# Altium schematic symbol library Timer_RTC.SchLib: 42 symbols
Pins are listed as number, name and electrical type; pins without a type are passive.

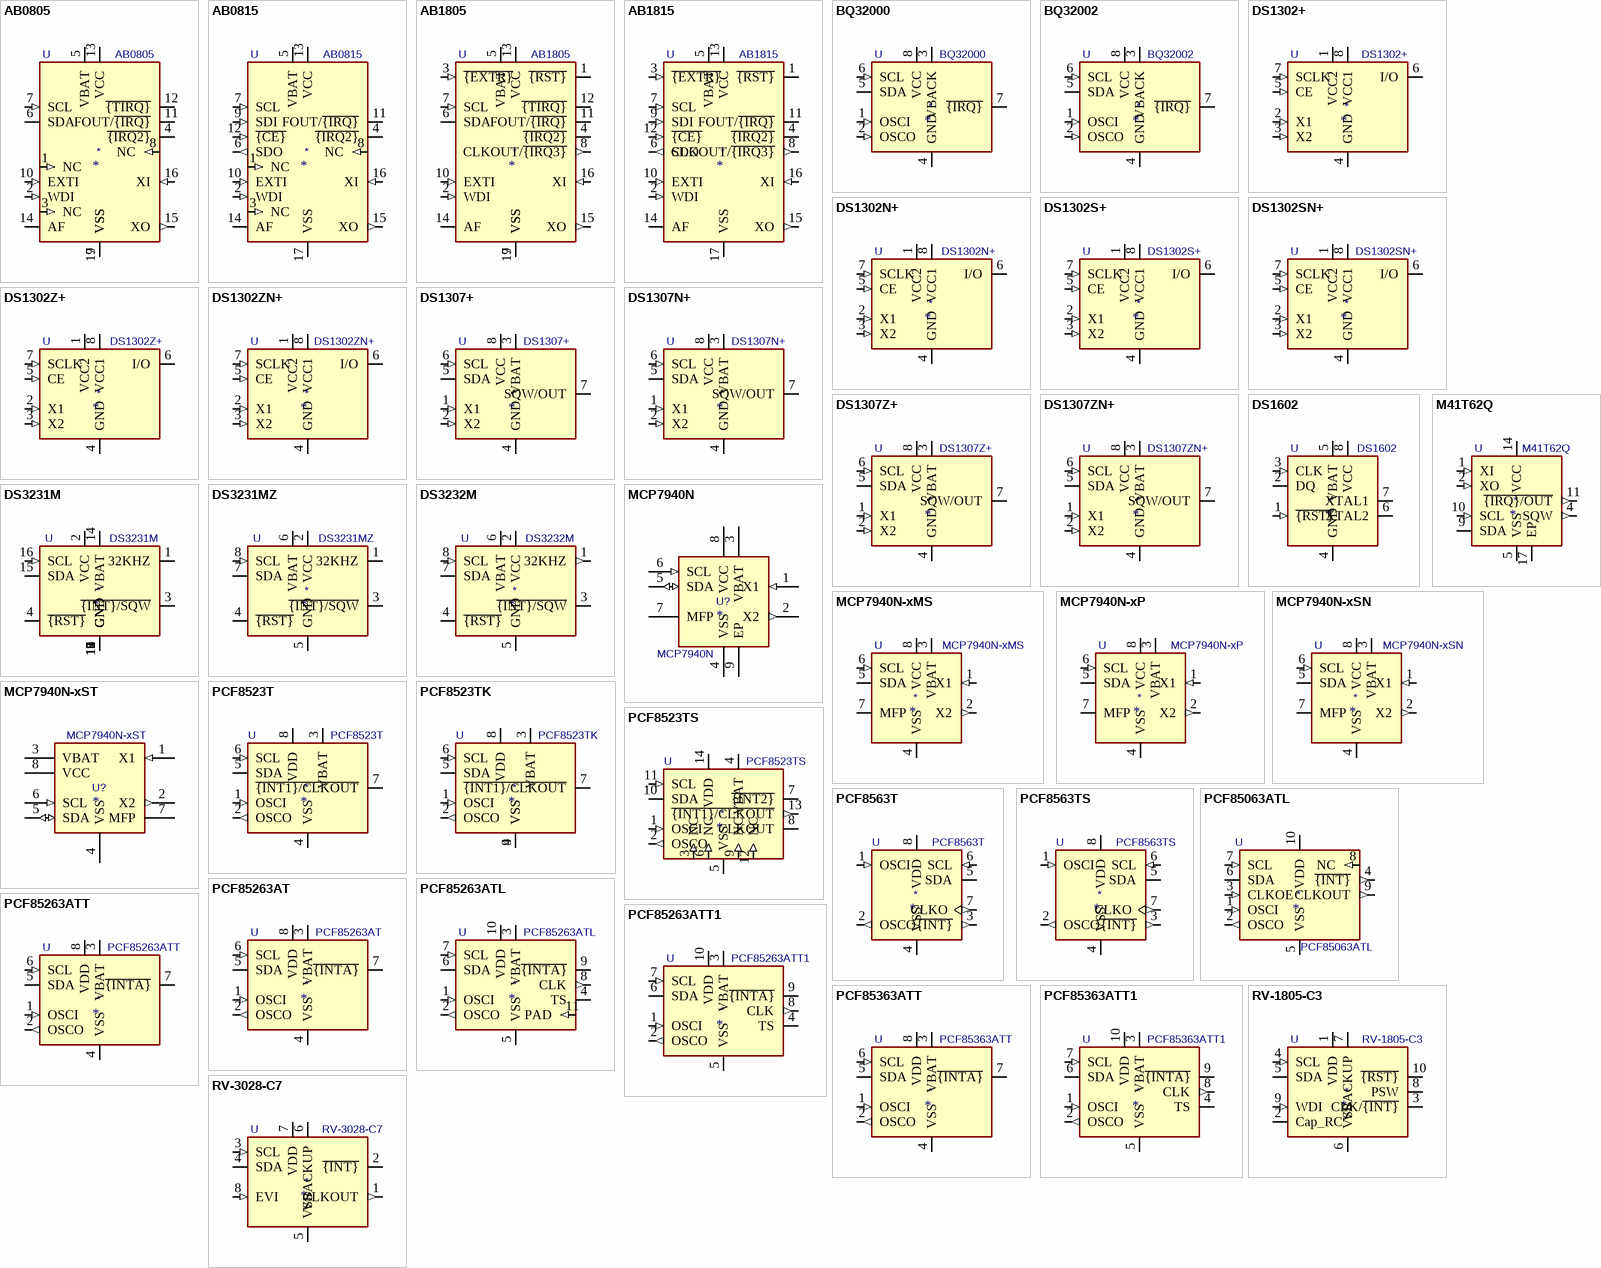
[diagram p0: symbols AB0805 to RV-3028-C7]

## AB0805
designator *  value AB0805  Reference: U
Real-Time Clock, I2C Interface, 3 GPO, QFN-16; ki_keywords: rtc; ki_fp_filters: VQFN*1EP*3x3mm*P0.5mm*; Footprint: Package_DFN_QFN:VQFN-16-1EP_3x3mm_P0.5mm_EP1.8x1.8mm; Datasheet: https://abracon.com/Precisiontiming/AB08X5-RTC.PDF; Description_: Real-Time Clock, I2C Interface, 3 GPO, QFN-16
pins: 1 NC (in), 2 WDI (in), 3 NC (in), 4 ~{{IRQ2}} (oc), 5 VBAT (power), 6 SDA (io), 7 SCL (in), 8 NC (in), 9 VSS (power), 10 EXTI (in), 11 FOUT/~{{IRQ}} (oc), 12 ~{{TIRQ}} (oc), 13 VCC (power), 14 AF, 15 XO (out), 16 XI (in), 17 VSS

## AB0815
designator *  value AB0815  Reference: U
Real-Time Clock, SPI Interface, 2 GPO, QFN-16; ki_keywords: rtc; ki_fp_filters: VQFN*1EP*3x3mm*P0.5mm*; Footprint: Package_DFN_QFN:VQFN-16-1EP_3x3mm_P0.5mm_EP1.8x1.8mm; Datasheet: https://abracon.com/Precisiontiming/AB08X5-RTC.PDF; Description_: Real-Time Clock, SPI Interface, 2 GPO, QFN-16
pins: 1 NC (in), 2 WDI (in), 3 NC (in), 4 ~{{IRQ2}} (oc), 5 VBAT (power), 6 SDO (out), 7 SCL (in), 8 NC (in), 9 SDI (in), 10 EXTI (in), 11 FOUT/~{{IRQ}} (oc), 12 ~{{CE}} (in), 13 VCC (power), 14 AF, 15 XO (out), 16 XI (in), 17 VSS (power)

## AB1805
designator *  value AB1805  Reference: U
Real-Time Clock, I2C Interface, 4 GPO, QFN-16; ki_keywords: rtc; ki_fp_filters: VQFN*1EP*3x3mm*P0.5mm*; Footprint: Package_DFN_QFN:VQFN-16-1EP_3x3mm_P0.5mm_EP1.8x1.8mm; Datasheet: https://abracon.com/Precisiontiming/AB18X5-RTC.pdf; Description_: Real-Time Clock, I2C Interface, 4 GPO, QFN-16
pins: 1 ~{{RST}} (oc), 2 WDI (in), 3 ~{{EXTR}} (in), 4 ~{{IRQ2}} (oc), 5 VBAT (power), 6 SDA (io), 7 SCL (in), 8 CLKOUT/~{{IRQ3}} (out), 9 VSS (power), 10 EXTI (in), 11 FOUT/~{{IRQ}} (oc), 12 ~{{TIRQ}} (oc), 13 VCC (power), 14 AF, 15 XO (out), 16 XI (in), 17 VSS

## AB1815
designator *  value AB1815  Reference: U
Real-Time Clock, SPI Interface, 3 GPO, QFN-16; ki_keywords: rtc; ki_fp_filters: VQFN*1EP*3x3mm*P0.5mm*; Footprint: Package_DFN_QFN:VQFN-16-1EP_3x3mm_P0.5mm_EP1.8x1.8mm; Datasheet: https://abracon.com/Precisiontiming/AB18X5-RTC.pdf; Description_: Real-Time Clock, SPI Interface, 3 GPO, QFN-16
pins: 1 ~{{RST}} (oc), 2 WDI (in), 3 ~{{EXTR}} (in), 4 ~{{IRQ2}} (oc), 5 VBAT (power), 6 SDO (out), 7 SCL (in), 8 CLKOUT/~{{IRQ3}} (out), 9 SDI (in), 10 EXTI (in), 11 FOUT/~{{IRQ}} (oc), 12 ~{{CE}} (in), 13 VCC (power), 14 AF, 15 XO (out), 16 XI (in), 17 VSS (power)

## BQ32000
designator *  value BQ32000  Reference: U
Serial, I2C Real-time clock, Trickle charger, 3V to 3.6V VCC, -40°C to +85°C, SOIC-8; ki_keywords: RTC, I2C Timekeeping Chip; ki_fp_filters: SOIC*3.9x4.9mm?P1.27mm*; Footprint: Package_SO:SOIC-8_3.9x4.9mm_P1.27mm; Datasheet: http://www.ti.com/lit/ds/symlink/bq32000.pdf; Description_: Serial, I2C Real-time clock, Trickle charger, 3V to 3.6V VCC, -40°C to +85°C, SOIC-8
pins: 1 OSCI (in), 2 OSCO (in), 3 VBACK (power), 4 GND (power), 5 SDA (io), 6 SCL (in), 7 ~{{IRQ}} (oc), 8 VCC (power)

## BQ32002
designator *  value BQ32002  Reference: U
Serial, I2C Real-time clock, 3V to 3.6V VCC, -40°C to +85°C, SOIC-8; ki_keywords: RTC, I2C Timekeeping Chip; ki_fp_filters: SOIC*3.9x4.9mm?P1.27mm*; Footprint: Package_SO:SOIC-8_3.9x4.9mm_P1.27mm; Datasheet: http://www.ti.com/lit/ds/symlink/bq32002.pdf; Description_: Serial, I2C Real-time clock, 3V to 3.6V VCC, -40°C to +85°C, SOIC-8
pins: 1 OSCI (in), 2 OSCO (in), 3 VBACK (power), 4 GND (power), 5 SDA (io), 6 SCL (in), 7 ~{{IRQ}} (oc), 8 VCC (power)

## DS1302+
designator *  value DS1302+  Reference: U
Trickle-Charge Timekeeping Chip, 2.0V to 5.5V VCC, 0°C to +70°C, DIP-8; ki_keywords: RTC Trickle-Charge Timekeeping Chip; ki_fp_filters: DIP*W7.62mm*; Footprint: Package_DIP:DIP-8_W7.62mm; Datasheet: https://datasheets.maximintegrated.com/en/ds/DS1302.pdf; Description_: Trickle-Charge Timekeeping Chip, 2.0V to 5.5V VCC, 0°C to +70°C, DIP-8
pins: 1 VCC2 (power), 2 X1 (in), 3 X2 (in), 4 GND (power), 5 CE (in), 6 I/O (io), 7 SCLK (in), 8 VCC1 (power)

## DS1302N+
designator *  value DS1302N+  Reference: U
Trickle-Charge Timekeeping Chip, 2.0V to 5.5V VCC, -40°C to +85°C, DIP-8; ki_keywords: RTC Trickle-Charge Timekeeping Chip; ki_fp_filters: DIP*W7.62mm*; Footprint: Package_DIP:DIP-8_W7.62mm; Datasheet: https://datasheets.maximintegrated.com/en/ds/DS1302.pdf; Description_: Trickle-Charge Timekeeping Chip, 2.0V to 5.5V VCC, -40°C to +85°C, DIP-8
pins: 1 VCC2 (power), 2 X1 (in), 3 X2 (in), 4 GND (power), 5 CE (in), 6 I/O (io), 7 SCLK (in), 8 VCC1 (power)

## DS1302S+
designator *  value DS1302S+  Reference: U
Trickle-Charge Timekeeping Chip, 2.0V to 5.5V VCC, 0°C to +70°C, SOIC-8 (208 mil); ki_keywords: RTC Trickle-Charge Timekeeping Chip; ki_fp_filters: *SOIC*5.3x5.3mm*P1.27mm*; Footprint: Package_SO:SOIC-8_5.3x5.3mm_P1.27mm; Datasheet: https://datasheets.maximintegrated.com/en/ds/DS1302.pdf; Description_: Trickle-Charge Timekeeping Chip, 2.0V to 5.5V VCC, 0°C to +70°C, SOIC-8 (208 mil)
pins: 1 VCC2 (power), 2 X1 (in), 3 X2 (in), 4 GND (power), 5 CE (in), 6 I/O (io), 7 SCLK (in), 8 VCC1 (power)

## DS1302SN+
designator *  value DS1302SN+  Reference: U
Trickle-Charge Timekeeping Chip, 2.0V to 5.5V VCC, -40°C to +85°C, SOIC-8 (208 mil); ki_keywords: RTC Trickle-Charge Timekeeping Chip; ki_fp_filters: *SOIC*5.3x5.3mm*P1.27mm*; Footprint: Package_SO:SOIC-8_5.3x5.3mm_P1.27mm; Datasheet: https://datasheets.maximintegrated.com/en/ds/DS1302.pdf; Description_: Trickle-Charge Timekeeping Chip, 2.0V to 5.5V VCC, -40°C to +85°C, SOIC-8 (208 mil)
pins: 1 VCC2 (power), 2 X1 (in), 3 X2 (in), 4 GND (power), 5 CE (in), 6 I/O (io), 7 SCLK (in), 8 VCC1 (power)

## DS1302Z+
designator *  value DS1302Z+  Reference: U
Trickle-Charge Timekeeping Chip, 2.0V to 5.5V VCC, 0°C to +70°C, SOIC-8 (150 mil); ki_keywords: RTC Trickle-Charge Timekeeping Chip; ki_fp_filters: SOIC*3.9x4.9mm?P1.27mm*; Footprint: Package_SO:SOIC-8_3.9x4.9mm_P1.27mm; Datasheet: https://datasheets.maximintegrated.com/en/ds/DS1302.pdf; Description_: Trickle-Charge Timekeeping Chip, 2.0V to 5.5V VCC, 0°C to +70°C, SOIC-8 (150 mil)
pins: 1 VCC2 (power), 2 X1 (in), 3 X2 (in), 4 GND (power), 5 CE (in), 6 I/O (io), 7 SCLK (in), 8 VCC1 (power)

## DS1302ZN+
designator *  value DS1302ZN+  Reference: U
Trickle-Charge Timekeeping Chip, 2.0V to 5.5V VCC, -40°C to +85°C, SOIC-8 (150 mil); ki_keywords: RTC Trickle-Charge Timekeeping Chip; ki_fp_filters: SOIC*3.9x4.9mm?P1.27mm*; Footprint: Package_SO:SOIC-8_3.9x4.9mm_P1.27mm; Datasheet: https://datasheets.maximintegrated.com/en/ds/DS1302.pdf; Description_: Trickle-Charge Timekeeping Chip, 2.0V to 5.5V VCC, -40°C to +85°C, SOIC-8 (150 mil)
pins: 1 VCC2 (power), 2 X1 (in), 3 X2 (in), 4 GND (power), 5 CE (in), 6 I/O (io), 7 SCLK (in), 8 VCC1 (power)

## DS1307+
designator *  value DS1307+  Reference: U
64 x 8, Serial, I2C Real-time clock, 4.5V to 5.5V VCC, 0°C to +70°C, DIP-8; ki_keywords: RTC, Trickle-Charge Timekeeping Chip; ki_fp_filters: DIP*W7.62mm*; Footprint: Package_DIP:DIP-8_W7.62mm; Datasheet: https://datasheets.maximintegrated.com/en/ds/DS1307.pdf; Description_: 64 x 8, Serial, I2C Real-time clock, 4.5V to 5.5V VCC, 0°C to +70°C, DIP-8
pins: 1 X1 (in), 2 X2 (in), 3 VBAT (power), 4 GND (power), 5 SDA (io), 6 SCL (in), 7 SQW/OUT (oc), 8 VCC (power)

## DS1307N+
designator *  value DS1307N+  Reference: U
64 x 8, Serial, I2C Real-time clock, 4.5V to 5.5V VCC, -40°C to +85°C, DIP-8; ki_keywords: RTC, Trickle-Charge Timekeeping Chip; ki_fp_filters: DIP*W7.62mm*; Footprint: Package_DIP:DIP-8_W7.62mm; Datasheet: https://datasheets.maximintegrated.com/en/ds/DS1307.pdf; Description_: 64 x 8, Serial, I2C Real-time clock, 4.5V to 5.5V VCC, -40°C to +85°C, DIP-8
pins: 1 X1 (in), 2 X2 (in), 3 VBAT (power), 4 GND (power), 5 SDA (io), 6 SCL (in), 7 SQW/OUT (oc), 8 VCC (power)

## DS1307Z+
designator *  value DS1307Z+  Reference: U
64 x 8, Serial, I2C Real-time clock, 4.5V to 5.5V VCC, 0°C to +70°C, SOIC-8; ki_keywords: RTC, I2C Timekeeping Chip; ki_fp_filters: SOIC*3.9x4.9mm?P1.27mm*; Footprint: Package_SO:SOIC-8_3.9x4.9mm_P1.27mm; Datasheet: https://datasheets.maximintegrated.com/en/ds/DS1307.pdf; Description_: 64 x 8, Serial, I2C Real-time clock, 4.5V to 5.5V VCC, 0°C to +70°C, SOIC-8
pins: 1 X1 (in), 2 X2 (in), 3 VBAT (power), 4 GND (power), 5 SDA (io), 6 SCL (in), 7 SQW/OUT (oc), 8 VCC (power)

## DS1307ZN+
designator *  value DS1307ZN+  Reference: U
64 x 8, Serial, I2C Real-time clock, 4.5V to 5.5V VCC, -40°C to +85°C, SOIC-8; ki_keywords: RTC, I2C Timekeeping Chip; ki_fp_filters: SOIC*3.9x4.9mm?P1.27mm*; Footprint: Package_SO:SOIC-8_3.9x4.9mm_P1.27mm; Datasheet: https://datasheets.maximintegrated.com/en/ds/DS1307.pdf; Description_: 64 x 8, Serial, I2C Real-time clock, 4.5V to 5.5V VCC, -40°C to +85°C, SOIC-8
pins: 1 X1 (in), 2 X2 (in), 3 VBAT (power), 4 GND (power), 5 SDA (io), 6 SCL (in), 7 SQW/OUT (oc), 8 VCC (power)

## DS1602
designator *  value DS1602  Reference: U
Elapsed Time Counter, -40 to +85 C, 2.5V to 5.5V VCC, DIP-8, SO-8; ki_fp_filters: DIP*W7.62mm* SO*5.3x6.2mm?P1.27mm*; Datasheet: https://datasheets.maximintegrated.com/en/ds/DS1602.pdf; Description_: Elapsed Time Counter, -40 to +85 C, 2.5V to 5.5V VCC, DIP-8, SO-8; ki_keywords: Elapsed Time Counter
pins: 1 ~{{RST}} (in), 2 DQ (io), 3 CLK (in), 4 GND (power), 5 VBAT (power), 6 XTAL2, 7 XTAL1, 8 VCC (power)

## DS3231M
designator *  value DS3231M  Reference: U
Extremely Accurate I2C-Integrated RTC/TCXO/Crystal SOIC-16; ki_keywords: RTC TCXO Realtime Time Clock Crystal Oscillator I2C; ki_fp_filters: SOIC*7.5x10.3mm*P1.27mm*; Footprint: Package_SO:SOIC-16W_7.5x10.3mm_P1.27mm; Datasheet: http://datasheets.maximintegrated.com/en/ds/DS3231.pdf; Description_: Extremely Accurate I2C-Integrated RTC/TCXO/Crystal SOIC-16
pins: 1 32KHZ (oc), 2 VCC (power), 3 ~{{INT}/SQW} (oc), 4 ~{{RST}} (io), 5 GND, 6 GND, 7 GND, 8 GND, 9 GND, 10 GND, 11 GND, 12 GND, 13 GND (power), 14 VBAT (power), 15 SDA (io), 16 SCL (in)

## DS3231MZ
designator *  value DS3231MZ  Reference: U
±5ppm, I2C Real-Time Clock SOIC-8; ki_keywords: RTC TCXO Realtime Time Clock MEMS I2C; ki_fp_filters: SOIC*3.9x4.9mm*P1.27mm*; Footprint: Package_SO:SOIC-8_3.9x4.9mm_P1.27mm; Datasheet: http://datasheets.maximintegrated.com/en/ds/DS3231M.pdf; Description_: ±5ppm, I2C Real-Time Clock SOIC-8
pins: 1 32KHZ (oc), 2 VCC (power), 3 ~{{INT}/SQW} (oc), 4 ~{{RST}} (io), 5 GND (power), 6 VBAT (power), 7 SDA (io), 8 SCL (in)

## DS3232M
designator *  value DS3232M  Reference: U
±5ppm, I2C Real-Time Clock with SRAM SOIC-8; ki_keywords: RTC TCXO Realtime Time Clock MEMS SRAM I2C; ki_fp_filters: SOIC*3.9x4.9mm*P1.27mm*; Footprint: Package_SO:SOIC-8_3.9x4.9mm_P1.27mm; Datasheet: http://datasheets.maximintegrated.com/en/ds/DS3232M.pdf; Description_: ±5ppm, I2C Real-Time Clock with SRAM SOIC-8
pins: 1 32KHZ (out), 2 VCC (power), 3 ~{{INT}/SQW} (oc), 4 ~{{RST}} (io), 5 GND (power), 6 VBAT (power), 7 SDA (io), 8 SCL (in)

## M41T62Q
designator *  value M41T62Q  Reference: U
Low-power I2C RTC with alarm interrupt QFN; ki_keywords: I2C RTC Alarm interrupt; ki_fp_filters: QFN*16*1EP*3x3mm*P0.5mm*EP1.8x1.8mm*; Footprint: Package_DFN_QFN:QFN-16-1EP_3x3mm_P0.5mm_EP1.8x1.8mm; Datasheet: http://www.st.com/resource/en/datasheet/m41t62.pdf; Description_: Low-power I2C RTC with alarm interrupt QFN
pins: 1 XI (in), 2 XO (in), 4 SQW (out), 5 VSS (power), 9 SDA (io), 10 SCL (in), 11 ~{{IRQ}/OUT} (out), 14 VCC (power), 17 EP

## MCP7940N
designator U?  value MCP7940N
Real-Time Clock, I2C, Battery Backup, TDFN-8; ki_keywords: realtime clock RTC; ki_fp_filters: DFN*1EP*3x2mm*P0.5mm*; Reference: U; Footprint: Package_DFN_QFN:DFN-8-1EP_3x2mm_P0.5mm_EP1.36x1.46mm; Datasheet: http://ww1.microchip.com/downloads/en/DeviceDoc/20005010F.pdf; Description_: Real-Time Clock, I2C, Battery Backup, TDFN-8
footprint DFN-8-1EP_3x2mm_P0.5mm_EP1.36x1.46mm
pins: 1 X1 (in), 2 X2 (out), 3 VBAT (power), 4 VSS (power), 5 SDA (io), 6 SCL (in), 7 MFP (oc), 8 VCC (power), 9 EP (power)

## MCP7940N-xMS
designator *  value MCP7940N-xMS  Reference: U
Real-Time Clock, I2C, Battery Backup, MSOP-8; ki_keywords: realtime clock RTC; ki_fp_filters: SOIC*3.9x4.9mm*P1.27mm* TSSOP*4.4x3mm*P0.65mm* MSOP*3x3mm*P0.65mm* DIP*W7.62mm*; Datasheet: http://ww1.microchip.com/downloads/en/DeviceDoc/20005010F.pdf; Description_: Real-Time Clock, I2C, Battery Backup, MSOP-8
pins: 1 X1 (in), 2 X2 (out), 3 VBAT (power), 4 VSS (power), 5 SDA (io), 6 SCL (in), 7 MFP (oc), 8 VCC (power)

## MCP7940N-xP
designator *  value MCP7940N-xP  Reference: U
Real-Time Clock, I2C, Battery Backup, DIP-8; ki_keywords: realtime clock RTC; ki_fp_filters: SOIC*3.9x4.9mm*P1.27mm* TSSOP*4.4x3mm*P0.65mm* MSOP*3x3mm*P0.65mm* DIP*W7.62mm*; Datasheet: http://ww1.microchip.com/downloads/en/DeviceDoc/20005010F.pdf; Description_: Real-Time Clock, I2C, Battery Backup, DIP-8
pins: 1 X1 (in), 2 X2 (out), 3 VBAT (power), 4 VSS (power), 5 SDA (io), 6 SCL (in), 7 MFP (oc), 8 VCC (power)

## MCP7940N-xSN
designator *  value MCP7940N-xSN  Reference: U
Real-Time Clock, I2C, Battery Backup, SOIC-8; ki_keywords: realtime clock RTC; ki_fp_filters: SOIC*3.9x4.9mm*P1.27mm* TSSOP*4.4x3mm*P0.65mm* MSOP*3x3mm*P0.65mm* DIP*W7.62mm*; Datasheet: http://ww1.microchip.com/downloads/en/DeviceDoc/20005010F.pdf; Description_: Real-Time Clock, I2C, Battery Backup, SOIC-8
pins: 1 X1 (in), 2 X2 (out), 3 VBAT (power), 4 VSS (power), 5 SDA (io), 6 SCL (in), 7 MFP (oc), 8 VCC (power)

## MCP7940N-xST
designator U?  value MCP7940N-xST
Real-Time Clock, I2C, Battery Backup, TSSOP-8; Manufacturer: Microchip; Manufacturer Lifecycle Status: REL; Manufacturer Part Number: MCP7940NT-I/ST; ki_keywords: realtime clock RTC; ki_fp_filters: SOIC*3.9x4.9mm*P1.27mm* TSSOP*4.4x3mm*P0.65mm* MSOP*3x3mm*P0.65mm* DIP*W7.62mm*; Date Format: YY-MM-DD-dd; Interface: 2-Wire, I2C, Serial; Max Supply Voltage: 5.5V; Memory Size: 64B; Min Supply Voltage: 1.8V; Time Format: HH:MM:SS; Reference: U; Datasheet: http://ww1.microchip.com/downloads/en/DeviceDoc/20005010F.pdf; Description_: Real-Time Clock, I2C, Battery Backup, TSSOP-8; Case/Package: TSSOP; Category: Real Time Clocks; Country of Assembly: Thailand; Country of Fabrication: United States of America; Country of Origin: Thailand; Export Control Classification Number (ECCN) Code: EAR99; Harmonized Tariff Schedule (HTS) Code: 8542.39.0060; HS Code: 8542.39.0090; Introduction Date: 2011-03-25; Lifecycle Status: Production; Logic Function: Clock; Max Operating Temperature: 85°C; Min Operating Temperature: -40°C; Mounting Technology: Surface Mount; Pins: 8; Packaging: Tape and Reel; Projected EOL Date: 2039-03-25; Radiation Hardening: No; RoHS: Compliant; Schedule B: 8542390000; Supplier 1: Mouser; Supplier Part Number 1: 579-MCP7940NT-I/ST; Supplier Packaging 1: Tape & Reel; Supplier Unit Price 1: $0.90; Supplier Location 1: US; DNP: *
footprint TSSOP-8_4.4x3mm_P0.65mm
pins: 1 X1 (in), 2 X2 (out), 3 VBAT (power), 4 VSS (power), 5 SDA (io), 6 SCL (in), 7 MFP (oc), 8 VCC (power)

## PCF8523T
designator *  value PCF8523T  Reference: U
Realtime Clock/Calendar I2C Interface, SOIC-8; ki_keywords: I2C RTC Clock Calendar; ki_fp_filters: SOIC*3.9x4.9mm*P1.27mm*; Footprint: Package_SO:SOIC-8_3.9x4.9mm_P1.27mm; Datasheet: https://www.nxp.com/docs/en/data-sheet/PCF8523.pdf; Description_: Realtime Clock/Calendar I2C Interface, SOIC-8
pins: 1 OSCI (in), 2 OSCO (out), 3 VBAT (power), 4 VSS (power), 5 SDA (io), 6 SCL (in), 7 ~{{INT1}/CLKOUT} (oc), 8 VDD (power)

## PCF8523TK
designator *  value PCF8523TK  Reference: U
Realtime Clock/Calendar I2C Interface, HVSON-8; ki_keywords: I2C RTC Clock Calendar; ki_fp_filters: HVSON*1EP*4x4mm*P0.8mm*; Footprint: Package_SON:HVSON-8-1EP_4x4mm_P0.8mm_EP2.2x3.1mm; Datasheet: https://www.nxp.com/docs/en/data-sheet/PCF8523.pdf; Description_: Realtime Clock/Calendar I2C Interface, HVSON-8
pins: 1 OSCI (in), 2 OSCO (out), 3 VBAT (power), 4 VSS (power), 5 SDA (io), 6 SCL (in), 7 ~{{INT1}/CLKOUT} (oc), 8 VDD (power), 9 VSS

## PCF8523TS
designator *  value PCF8523TS  Reference: U
Realtime Clock/Calendar I2C Interface, TSSOP-14; ki_keywords: I2C RTC Clock Calendar; ki_fp_filters: TSSOP*4.4x5mm*P0.65mm*; Footprint: Package_SO:TSSOP-14_4.4x5mm_P0.65mm; Datasheet: https://www.nxp.com/docs/en/data-sheet/PCF8523.pdf; Description_: Realtime Clock/Calendar I2C Interface, TSSOP-14
pins: 1 OSCI (in), 2 OSCO (out), 3 NC (in), 4 VBAT (power), 5 VSS (power), 6 NC (in), 7 ~{{INT2}} (oc), 8 CLKOUT (oc), 9 NC (in), 10 SDA (io), 11 SCL (in), 12 NC (in), 13 ~{{INT1}/CLKOUT} (out), 14 VDD (power)

## PCF8563T
designator *  value PCF8563T  Reference: U
Realtime Clock/Calendar I2C Interface, SOIC-8; ki_keywords: I2C RTC Clock Calendar; ki_fp_filters: SOIC*3.9x4.9mm*P1.27mm*; Footprint: Package_SO:SOIC-8_3.9x4.9mm_P1.27mm; Datasheet: https://www.nxp.com/docs/en/data-sheet/PCF8563.pdf; Description_: Realtime Clock/Calendar I2C Interface, SOIC-8
pins: 1 OSCI (in), 2 OSCO (out), 3 ~{{INT}} (out), 4 VSS (power), 5 SDA (io), 6 SCL (in), 7 CLKO (out), 8 VDD (power)

## PCF8563TS
designator *  value PCF8563TS  Reference: U
Realtime Clock/Calendar I2C Interface, TSSOP-8; ki_keywords: I2C RTC Clock Calendar; ki_fp_filters: MSOP*3x3mm*P0.65mm*; Footprint: Package_SO:MSOP-8_3x3mm_P0.65mm; Datasheet: https://www.nxp.com/docs/en/data-sheet/PCF8563.pdf; Description_: Realtime Clock/Calendar I2C Interface, TSSOP-8
pins: 1 OSCI (in), 2 OSCO (out), 3 ~{{INT}} (out), 4 VSS (power), 5 SDA (io), 6 SCL (in), 7 CLKO (out), 8 VDD (power)

## PCF85063ATL
designator *  value PCF85063ATL  Reference: U
I2C Real-Time Clock Calendar w/ Alarm, DFN-10; ki_keywords: RTC I2C; ki_fp_filters: DFN*2.6x2.6mm*P0.5mm*; Footprint: Package_DFN_QFN:DFN-10-1EP_2.6x2.6mm_P0.5mm_EP1.3x2.2mm; Datasheet: https://www.nxp.com/docs/en/data-sheet/PCF85063A.pdf; Description_: I2C Real-Time Clock Calendar w/ Alarm, DFN-10
pins: 1 OSCI (in), 2 OSCO (out), 3 CLKOE (in), 4 ~{{INT}} (out), 5 VSS (power), 6 SDA (io), 7 SCL (in), 8 NC (in), 9 CLKOUT (out), 10 VDD (power)

## PCF85263AT
designator *  value PCF85263AT  Reference: U
Tiny Real-Time Clock/calendar with alarm function, battery switch-over, time stamp input, I2C bus, SO-8; ki_keywords: RTC battery I2C; ki_fp_filters: SOIC*3.9x4.9mm*P1.27mm*; Footprint: Package_SO:SOIC-8_3.9x4.9mm_P1.27mm; Datasheet: https://www.nxp.com/docs/en/data-sheet/PCF85263A.pdf; Description_: Tiny Real-Time Clock/calendar with alarm function, battery switch-over, time stamp input, I2C bus, SO-8
pins: 1 OSCI (in), 2 OSCO (out), 3 VBAT (power), 4 VSS (power), 5 SDA (io), 6 SCL (in), 7 ~{{INTA}} (oc), 8 VDD (power)

## PCF85263ATL
designator *  value PCF85263ATL  Reference: U
Tiny Real-Time Clock/calendar with alarm function, battery switch-over, time stamp input, I2C bus, DFN-10; ki_keywords: RTC battery I2C; ki_fp_filters: DFN*2.6x2.6mm*P0.5mm*; Footprint: Package_DFN_QFN:DFN-10-1EP_2.6x2.6mm_P0.5mm_EP1.3x2.2mm; Datasheet: https://www.nxp.com/docs/en/data-sheet/PCF85263A.pdf; Description_: Tiny Real-Time Clock/calendar with alarm function, battery switch-over, time stamp input, I2C bus, DFN-10
pins: 1 OSCI (in), 2 OSCO (out), 3 VBAT (power), 4 TS (io), 5 VSS (power), 6 SDA (io), 7 SCL (in), 8 CLK (out), 9 ~{{INTA}} (oc), 10 VDD (power), 11 PAD (in)

## PCF85263ATT
designator *  value PCF85263ATT  Reference: U
Tiny Real-Time Clock/calendar with alarm function, battery switch-over, time stamp input, I2C bus, TSSOP-8; ki_keywords: RTC battery I2C; ki_fp_filters: TSSOP*3x3mm*P0.65mm*; Footprint: Package_SO:TSSOP-8_3x3mm_P0.65mm; Datasheet: https://www.nxp.com/docs/en/data-sheet/PCF85263A.pdf; Description_: Tiny Real-Time Clock/calendar with alarm function, battery switch-over, time stamp input, I2C bus, TSSOP-8
pins: 1 OSCI (in), 2 OSCO (out), 3 VBAT (power), 4 VSS (power), 5 SDA (io), 6 SCL (in), 7 ~{{INTA}} (oc), 8 VDD (power)

## PCF85263ATT1
designator *  value PCF85263ATT1  Reference: U
Tiny Real-Time Clock/calendar with alarm function, battery switch-over, time stamp input, I2C bus, TSSOP-10; ki_keywords: RTC battery I2C; ki_fp_filters: TSSOP*3x3mm*P0.5mm*; Footprint: Package_SO:TSSOP-10_3x3mm_P0.5mm; Datasheet: https://www.nxp.com/docs/en/data-sheet/PCF85263A.pdf; Description_: Tiny Real-Time Clock/calendar with alarm function, battery switch-over, time stamp input, I2C bus, TSSOP-10
pins: 1 OSCI (in), 2 OSCO (out), 3 VBAT (power), 4 TS (io), 5 VSS (power), 6 SDA (io), 7 SCL (in), 8 CLK (out), 9 ~{{INTA}} (oc), 10 VDD (power)

## PCF85363ATT
designator *  value PCF85363ATT  Reference: U
Tiny Real-Time Clock/calendar with 64 byte RAM, alarm function, battery switch-over, time stamp input, I2C bus, TSSOP-8; ki_keywords: RTC RAM battery I2C; ki_fp_filters: TSSOP*3x3mm*P0.65mm*; Footprint: Package_SO:TSSOP-8_3x3mm_P0.65mm; Datasheet: https://www.nxp.com/docs/en/data-sheet/PCF85363A.pdf; Description_: Tiny Real-Time Clock/calendar with 64 byte RAM, alarm function, battery switch-over, time stamp input, I2C bus, TSSOP-8
pins: 1 OSCI (in), 2 OSCO (out), 3 VBAT (power), 4 VSS (power), 5 SDA (io), 6 SCL (in), 7 ~{{INTA}} (oc), 8 VDD (power)

## PCF85363ATT1
designator *  value PCF85363ATT1  Reference: U
Tiny Real-Time Clock/calendar with 64 byte RAM, alarm function, battery switch-over, time stamp input, I2C bus, TSSOP-10; ki_keywords: RTC RAM battery I2C; ki_fp_filters: TSSOP*3x3mm*P0.5mm*; Footprint: Package_SO:TSSOP-10_3x3mm_P0.5mm; Datasheet: https://www.nxp.com/docs/en/data-sheet/PCF85363A.pdf; Description_: Tiny Real-Time Clock/calendar with 64 byte RAM, alarm function, battery switch-over, time stamp input, I2C bus, TSSOP-10
pins: 1 OSCI (in), 2 OSCO (out), 3 VBAT (power), 4 TS (io), 5 VSS (power), 6 SDA (io), 7 SCL (in), 8 CLK (out), 9 ~{{INTA}} (oc), 10 VDD (power)

## RV-1805-C3
designator *  value RV-1805-C3  Reference: U
Realtime Clock/Calendar I2C Interface, Extreme Low Power, MicroCrystal C3; ki_keywords: Low Power RTC I2C; ki_fp_filters: RTC*SMD*MicroCrystal*C3*2.5x3.7mm*; Footprint: Package_SON:RTC_SMD_MicroCrystal_C3_2.5x3.7mm; Datasheet: https://www.microcrystal.com/fileadmin/Media/Products/RTC/Datasheet/RV-1805-C3.pdf; Description_: Realtime Clock/Calendar I2C Interface, Extreme Low Power, MicroCrystal C3
pins: 1 VDD (power), 2 Cap_RC, 3 CLK/~{{INT}} (oc), 4 SCL (in), 5 SDA (io), 6 VSS (power), 7 VBACKUP (power), 8 PSW (oc), 9 WDI (in), 10 ~{{RST}} (oc)

## RV-3028-C7
designator *  value RV-3028-C7  Reference: U
Realtime Clock/Calendar I2C Interface, Extreme Low Power, 1.1 V to 5.5 V, MicroCrystal C7; ki_keywords: Low-power RTC I2C; ki_fp_filters: MicroCrystal*C7*1.5x3.2mm*; Footprint: Package_SON:MicroCrystal_C7_SON-8_1.5x3.2mm_P0.9mm; Datasheet: https://www.microcrystal.com/fileadmin/Media/Products/RTC/Datasheet/RV-3028-C7.pdf; Description_: Realtime Clock/Calendar I2C Interface, Extreme Low Power, 1.1 V to 5.5 V, MicroCrystal C7
pins: 1 CLKOUT (out), 2 ~{{INT}} (oc), 3 SCL (in), 4 SDA (io), 5 VSS (power), 6 VBACKUP (power), 7 VDD (power), 8 EVI (in)

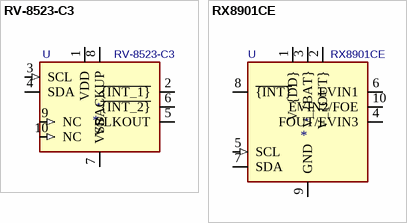
[diagram p1: symbols RV-8523-C3 to RX8901CE]

## RV-8523-C3
designator *  value RV-8523-C3  Reference: U
Realtime Clock/Calendar I2C Interface, Low Power, 1.2 V to 5.5 V, MicroCrystal C3; ki_keywords: Low Power RTC I2C; ki_fp_filters: RTC*SMD*MicroCrystal*C3*2.5x3.7mm*; Footprint: Package_SON:RTC_SMD_MicroCrystal_C3_2.5x3.7mm; Datasheet: https://www.microcrystal.com/fileadmin/Media/Products/RTC/Datasheet/RV-8523-C3.pdf; Description_: Realtime Clock/Calendar I2C Interface, Low Power, 1.2 V to 5.5 V, MicroCrystal C3
pins: 1 VDD (power), 2 ~{{INT_1}} (oc), 3 SCL (in), 4 SDA (io), 5 CLKOUT (oc), 6 ~{{INT_2}} (oc), 7 VSS (power), 8 VBACKUP (power), 9 NC (in), 10 NC (in)

## RX8901CE
designator *  value RX8901CE  Reference: U
Realtime Clock/Calendar I2C Interface built-in crystal , SON-10; ki_keywords: I2C RTC; ki_fp_filters: *EPSON*CE*USON*10*USON*10*3.2x2.5mm*P0.7mm*; Footprint: Package_SON:EPSON_CE-USON-10_USON-10_3.2x2.5mm_P0.7mm; Datasheet: https://support.epson.biz/td/api/doc_check.php?dl=app_RX8901CE&lang=en; Description_: Realtime Clock/Calendar I2C Interface built-in crystal , SON-10
pins: 1 V_{DD} (power), 2 V_{OUT} (power), 3 V_{BAT} (power), 4 FOUT/EVIN3 (io), 5 SCL (in), 6 EVIN1, 7 SDA (io), 8 ~{{INT}} (oc), 9 GND (power), 10 EVIN2/FOE (io)